# Altium footprint library H10R7.PcbLib: 22 footprints (part 1 of 2)
Each footprint in its own frame and in the unit in brackets; x right, y up, seen from the top. Pads: shape width x height; smd on the part's side, far side on the other; paste and mask are expansions set on the pad; w line width, h text height; cw(c..) or ccw(c..) is an arc to the next point about the centre after c.
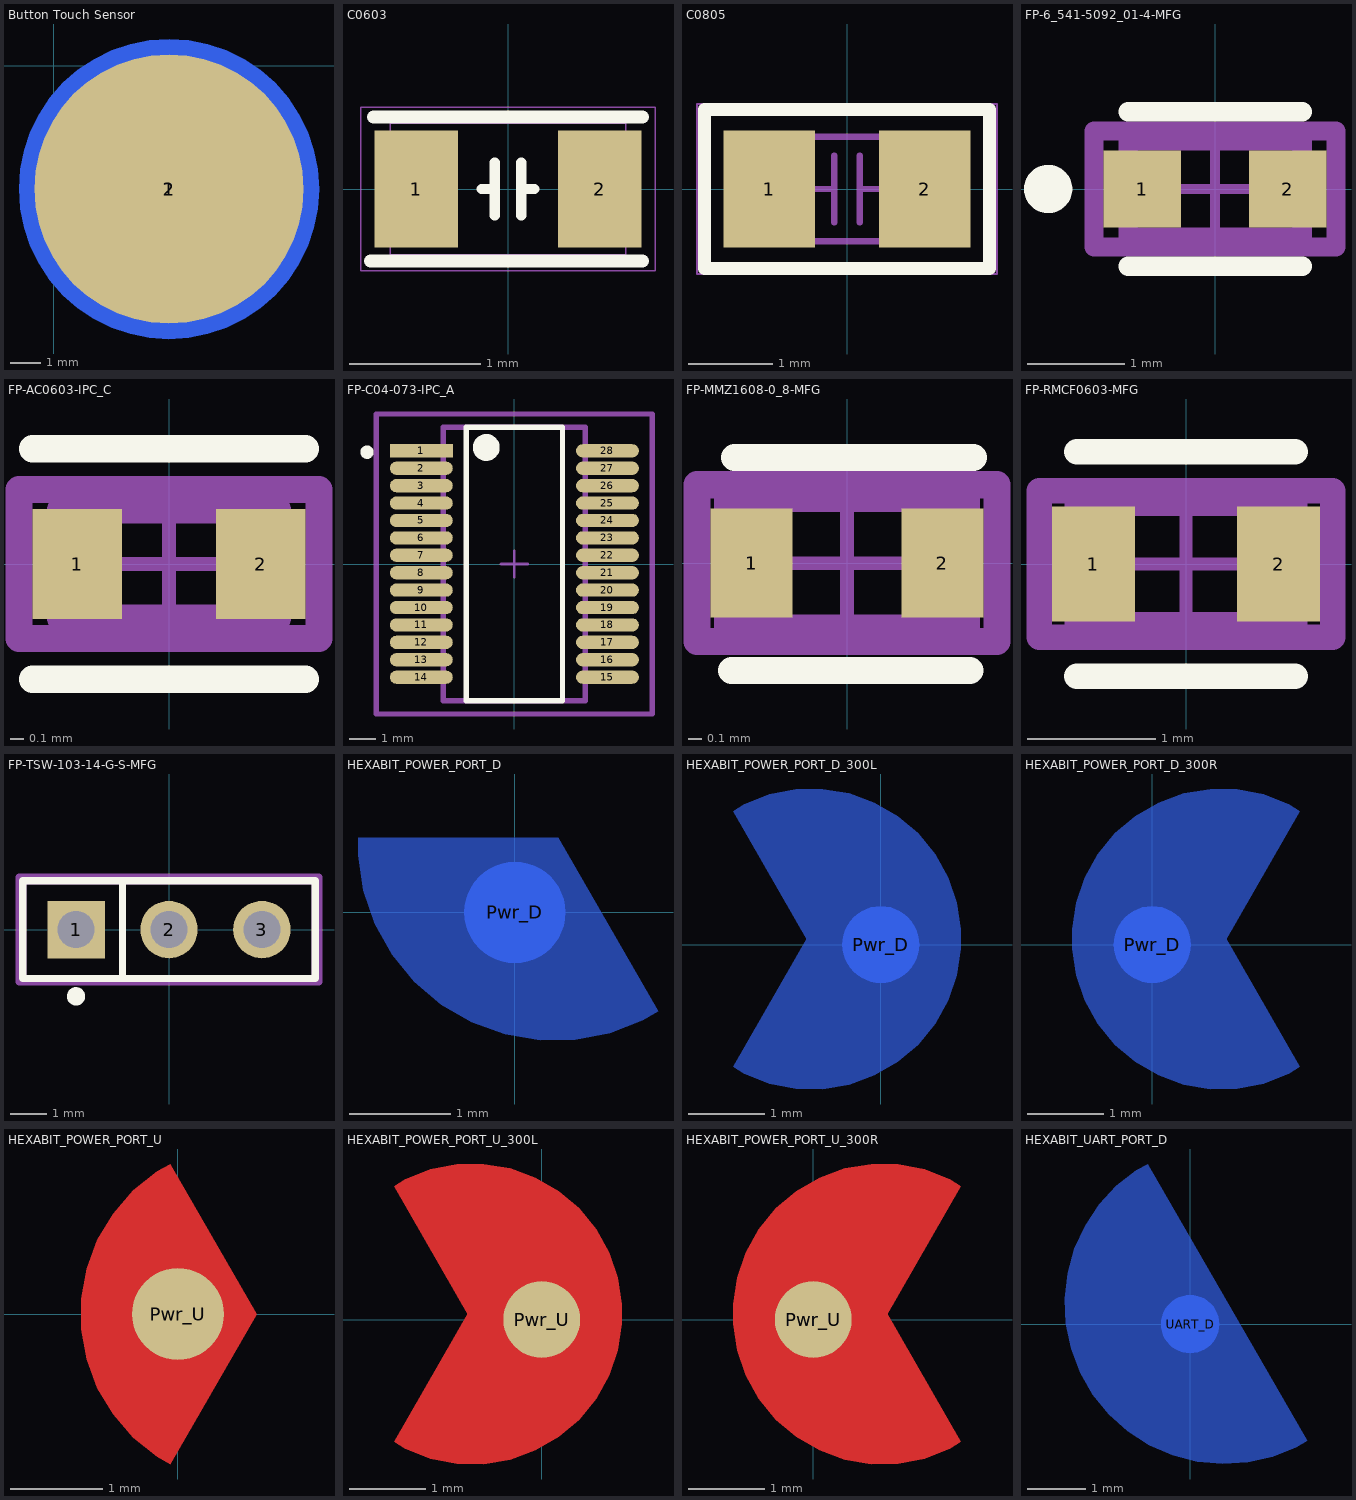
[diagram p0: the footprints below, top view; thin cyan lines are the x and y axes]

## Button Touch Sensor [mil]
pads (2):
  round 350 smd paste+0 mask+0: 1(150,-160)
  round 390 smd far side paste+0 mask+0: 2(150,-160)

## C0603 [mm]
pads (2):
  rect 0.64x0.89 smd mask+0.05: 1(-0.7,0) 2(0.7,0)
Top Overlay:
  lines w0.08: -0.2,0 -0.1,0 ; -0.1,-0.2 -0.1,0.2 ; 0.1,-0.2 0.1,0.2 ; 0.1,0 0.2,0
  lines w0.1: -1.05,-0.55 1.025,-0.55 ; -1.025,0.55 1.025,0.55
Mechanical 14:
  lines w0.01: -0.9,-0.5 -0.9,0.5 0.9,0.5 0.9,-0.5 -0.9,-0.5
Mechanical 16:
  lines w0.01: -1.125,-0.625 1.125,-0.625 1.125,0.625 -1.125,0.625 -1.125,-0.625
3D body "C0603.STEP": height 0.5, standoff 0, extent -0.8,-0.4 0.8,0.4
3D body: height 1.4, standoff 0, extent -0.899,-0.499 0.899,0.499

## C0805 [mil]
pads (2):
  rect 43x55 smd: 1(-36.5,0) 2(36.5,0)
Top Overlay:
  lines w6: -66.93,-37.4 66.93,-37.4 66.93,37.4 -11.81,37.4 -66.93,37.4 -66.93,-37.4
Top Courtyard:
  lines w1: -39.37,-24.61 39.37,-24.61 39.37,24.61 -39.37,24.61 -39.37,-24.61
Top 3D Body:
  lines w1: -70.5,-40 70.5,-40 70.5,40 -70.5,40 -70.5,-40
Mechanical 32:
  text "1" at -46.5,0 h25
  text "2" at 26.5,0 h25
Mechanical33:
  lines w6: -66.93,-37.4 66.93,-37.4 66.93,37.4 -11.81,37.4 -66.93,37.4 -66.93,-37.4
  text "C40" at 73.5,-7.17 h25
Top Assembly:
  lines w3: -33.46,0 -5.91,0 ; -5.91,-15.75 -5.91,0 ; -5.91,15.75 -5.91,0 ; 5.91,-15.75 5.91,0 ; 5.91,15.75 5.91,0 ; 33.46,0 5.91,0 ; -39.37,-24.61 39.37,-24.61 39.37,24.61 -39.37,24.61 -39.37,-24.61
3D body "0805CAP.step": height 30.79, standoff 0, extent -39.21,-24.48 39.53,24.73

## FP-6_541-5092_01-4-MFG [mm]
pads (2):
  rect 0.8x0.8 smd paste+0 mask+0: 1(-0.75,0) 2(0.75,0)
Top Overlay:
  circle w0.25: c-1.725,0 r0.125
  lines w0.2: -0.9,-0.8 0.9,-0.8 ; -0.9,0.8 0.9,0.8
Top Component Center:
  lines w0.1: -0.5,0 0.5,0 ; 0,-0.5 0,0.5
Top Courtyard:
  lines w0.2: -1.25,-0.6 -1.25,0.6 1.25,0.6 1.25,-0.6 -1.25,-0.6
Top 3D Body:
  lines w0.2: -0.9,-0.5 -0.9,0.5 0.9,0.5 0.9,-0.5 -0.9,-0.5
Top Assembly:
  lines w0.2: -1.25,-0.6 -1.25,0.6 1.25,0.6 1.25,-0.6 -1.25,-0.6
3D body "Diode_Vishay_VLMY1300-GS08_eec.STEP": height 0.25, standoff 0, extent -1.25,-0.6 1.25,0.6

## FP-AC0603-IPC_C [mm]
pads (2):
  rect 0.659x0.812 smd paste+0 mask+0: 1(-0.677,0) 2(0.677,0)
Top Overlay:
  lines w0.2: -1.006,-0.85 1.006,-0.85 ; -1.006,0.85 1.006,0.85
Top Component Center:
  lines w0.1: -0.5,0 0.5,0 ; 0,-0.5 0,0.5
Top Courtyard:
  lines w0.2: -1.106,-0.55 -1.106,0.55 1.106,0.55 1.106,-0.55 -1.106,-0.55
Top 3D Body:
  lines w0.2: -0.8,-0.4 -0.8,0.4 0.8,0.4 0.8,-0.4 -0.8,-0.4
Top Assembly:
  lines w0.2: -1.106,-0.55 -1.106,0.55 1.106,0.55 1.106,-0.55 -1.106,-0.55
  text ".Designator" at 0,0.188 h1
3D body "Res_Yageo_AC0603FR-07180RL_eec.STEP": height 0.25, standoff 0, extent -1.106,-0.55 1.106,0.55

## FP-C04-073-IPC_A [mm]
pads (28):
  rect 2.353x0.495 smd paste+0 mask+0: 1(-3.475,4.225)
  rrect100% 2.353x0.495 smd paste+0 mask+0: 2(-3.475,3.575) 3(-3.475,2.925) 4(-3.475,2.275) 5(-3.475,1.625) 6(-3.475,0.975) 7(-3.475,0.325) 8(-3.475,-0.325) 9(-3.475,-0.975) 10(-3.475,-1.625) 11(-3.475,-2.275) 12(-3.475,-2.925) 13(-3.475,-3.575) 14(-3.475,-4.225) 15(3.475,-4.225) 16(3.475,-3.575) 17(3.475,-2.925) 18(3.475,-2.275) 19(3.475,-1.625) 20(3.475,-0.975) 21(3.475,-0.325) 22(3.475,0.325) 23(3.475,0.975) 24(3.475,1.625) 25(3.475,2.275) 26(3.475,2.925) 27(3.475,3.575) 28(3.475,4.225)
Top Overlay:
  circle w0.25: c-5.502,4.175 r0.125
  circle w0.5: c-1.049,4.35 r0.25
  lines w0.2: -1.799,-5.1 -1.799,5.1 1.799,5.1 1.799,-5.1 -1.799,-5.1
Top Component Center:
  lines w0.1: -0.5,0 0.5,0 ; 0,-0.5 0,0.5
Top Courtyard:
  lines w0.2: -5.152,-5.6 -5.152,5.6 5.152,5.6 5.152,-5.6 -5.152,-5.6
Top 3D Body:
  lines w0.2: -2.65,-5.1 -2.65,5.1 2.65,5.1 2.65,-5.1 -2.65,-5.1
Top Assembly:
  lines w0.2: -5.152,-5.6 -5.152,5.6 5.152,5.6 5.152,-5.6 -5.152,-5.6
  text ".Designator" at 0,-0.001 h1
3D body "IC_Microchip_DSPIC33EV128GM002-I-SS_eec.STEP": height 0.25, standoff 0, extent -5.152,-5.6 5.152,5.6

## FP-MMZ1608-0_8-MFG [mm]
pads (2):
  rect 0.6x0.8 smd paste+0 mask+0: 1(-0.7,0) 2(0.7,0)
Top Overlay:
  lines w0.2: -0.848,-0.787 0.902,-0.787 ; -0.825,0.775 0.925,0.775
Top Component Center:
  lines w0.1: -0.5,0 0.5,0 ; 0,-0.5 0,0.5
Top Courtyard:
  lines w0.2: -1.1,-0.575 -1.1,0.575 1.1,0.575 1.1,-0.575 -1.1,-0.575
Top 3D Body:
  lines w0.2: -0.875,-0.475 -0.875,0.475 0.875,0.475 0.875,-0.475 -0.875,-0.475
Top Assembly:
  lines w0.2: -1.1,-0.575 -1.1,0.575 1.1,0.575 1.1,-0.575 -1.1,-0.575
3D body "FBead_TDK_MMZ1608A182BTA00_eec.STEP": height 0.95, standoff 0, extent -0.8,-0.4 0.8,0.4

## FP-RMCF0603-MFG [mm]
pads (2):
  rect 0.65x0.9 smd paste+0 mask+0: 1(-0.725,0) 2(0.725,0)
Top Overlay:
  lines w0.2: -0.854,-0.879 0.854,-0.879 ; -0.854,0.879 0.854,0.879
Top Component Center:
  lines w0.1: -0.5,0 0.5,0 ; 0,-0.5 0,0.5
Top Courtyard:
  lines w0.2: -1.15,-0.575 -1.15,0.575 1.15,0.575 1.15,-0.575 -1.15,-0.575
Top 3D Body:
  lines w0.2: -0.85,-0.475 -0.85,0.475 0.85,0.475 0.85,-0.475 -0.85,-0.475
Top Assembly:
  lines w0.2: -1.15,-0.575 -1.15,0.575 1.15,0.575 1.15,-0.575 -1.15,-0.575
  text ".Designator" at 0,0.188 h1
3D body "Res_Stackpole_Electronics_RMCF0603JT1M80_eec.STEP": height 0.55, standoff 0, extent -0.775,-0.4 0.775,0.4

## FP-TSW-103-14-G-S-MFG [mm]
pads (3):
  rect 1.57x1.57 hole 1.02 paste-2539.97 mask+0: 1(-2.54,0)
  round 1.57 hole 1.02 paste-2539.97 mask+0: 2(0,0) 3(2.54,0)
Top Overlay:
  circle w0.25: c-2.54,-1.825 r0.125
  lines w0.2: -1.27,-1.335 -1.27,1.335 ; -4,-1.335 4,-1.335 4,1.335 -4,1.335 -4,-1.335
Top Component Center:
  lines w0.1: -0.5,0 0.5,0 ; 0,-0.5 0,0.5
Top Courtyard:
  lines w0.2: -4.1,-1.435 4.1,-1.435 4.1,1.435 -4.1,1.435 -4.1,-1.435
Top 3D Body:
  lines w0.2: -4,-1.335 4,-1.335 4,1.335 -4,1.335 -4,-1.335
Top Assembly:
  lines w0.2: -4.1,-1.435 4.1,-1.435 4.1,1.435 -4.1,1.435 -4.1,-1.435
3D body "Conn_Samtec_TSW-103-14-G-S_eec.STEP": height 0.25, standoff 0, extent -4.1,-1.435 4.1,1.435

## HEXABIT_POWER_PORT_D [mm]
pads (1):
  rrect100% 1x1 smd far side paste+0: Pwr_D(0,0)
Bottom Layer:
  region: 1.418,-0.978 1.269,-1.069 0.942,-1.195 0.599,-1.262 0.249,-1.266 -0.096,-1.207 -0.425,-1.089 -0.728,-0.914 -0.995,-0.687 -1.217,-0.417 -1.388,-0.112 -1.501,0.219 -1.554,0.565 -1.549,0.74 0.429,0.74
Bottom Solder:
  region: 1.418,-0.978 1.269,-1.069 0.942,-1.195 0.599,-1.262 0.249,-1.266 -0.096,-1.207 -0.425,-1.089 -0.728,-0.914 -0.995,-0.687 -1.217,-0.417 -1.388,-0.112 -1.501,0.219 -1.554,0.565 -1.549,0.74 0.429,0.74

## HEXABIT_POWER_PORT_D_300L [mm]
pads (1):
  rrect100% 1x1 smd far side paste+0: Pwr_D(0,0)
Bottom Layer:
  region: 1.041,0.122 1.046,-0.053 0.993,-0.399 0.88,-0.729 0.709,-1.035 0.487,-1.305 0.22,-1.531 -0.083,-1.707 -0.412,-1.825 -0.757,-1.883 -1.107,-1.879 -1.45,-1.813 -1.777,-1.687 -1.926,-1.596 -0.937,0.122
  region: 1.041,0.022 1.046,0.197 0.993,0.543 0.88,0.874 0.709,1.179 0.487,1.449 0.22,1.676 -0.083,1.851 -0.412,1.969 -0.757,2.028 -1.107,2.024 -1.45,1.957 -1.777,1.831 -1.926,1.74 -0.937,0.022
Bottom Solder:
  region: 1.041,0.022 1.046,0.197 0.993,0.543 0.88,0.874 0.709,1.179 0.487,1.449 0.22,1.676 -0.083,1.851 -0.412,1.969 -0.757,2.028 -1.107,2.024 -1.45,1.957 -1.777,1.831 -1.926,1.74 -0.937,0.022
  region: 1.041,0.122 1.046,-0.053 0.993,-0.399 0.88,-0.729 0.709,-1.035 0.487,-1.305 0.22,-1.531 -0.083,-1.707 -0.412,-1.825 -0.757,-1.883 -1.107,-1.879 -1.45,-1.813 -1.777,-1.687 -1.926,-1.596 -0.937,0.122

## HEXABIT_POWER_PORT_D_300R [mm]
pads (1):
  rrect100% 1x1 smd far side paste+0: Pwr_D(0,0)
Bottom Layer:
  region: -1.041,0.022 -1.046,0.197 -0.993,0.543 -0.88,0.874 -0.709,1.179 -0.487,1.449 -0.22,1.676 0.083,1.851 0.412,1.969 0.757,2.028 1.107,2.024 1.45,1.957 1.777,1.831 1.926,1.74 0.937,0.022
  region: 1.926,-1.596 1.777,-1.687 1.45,-1.813 1.107,-1.879 0.757,-1.883 0.412,-1.825 0.083,-1.707 -0.22,-1.531 -0.487,-1.305 -0.709,-1.035 -0.88,-0.729 -0.993,-0.399 -1.046,-0.053 -1.041,0.122 0.937,0.122
Bottom Solder:
  region: 1.926,-1.596 1.777,-1.687 1.45,-1.813 1.107,-1.879 0.757,-1.883 0.412,-1.825 0.083,-1.707 -0.22,-1.531 -0.487,-1.305 -0.709,-1.035 -0.88,-0.729 -0.993,-0.399 -1.046,-0.053 -1.041,0.122 0.937,0.122
  region: -1.041,0.022 -1.046,0.197 -0.993,0.543 -0.88,0.874 -0.709,1.179 -0.487,1.449 -0.22,1.676 0.083,1.851 0.412,1.969 0.757,2.028 1.107,2.024 1.45,1.957 1.777,1.831 1.926,1.74 0.937,0.022

## HEXABIT_POWER_PORT_U [mm]
pads (1):
  rrect100% 1x1 smd paste+0: Pwr_U(0,0)
Top Layer:
  region: -0.081,-1.631 -0.228,-1.552 -0.487,-1.343 -0.706,-1.092 -0.876,-0.806 -0.993,-0.494 -1.052,-0.167 -1.052,0.167 -0.993,0.494 -0.876,0.806 -0.706,1.092 -0.487,1.343 -0.228,1.552 -0.081,1.631 0.858,0
Top Solder:
  region: -0.081,-1.631 -0.228,-1.552 -0.487,-1.343 -0.706,-1.092 -0.876,-0.806 -0.993,-0.494 -1.052,-0.167 -1.052,0.167 -0.993,0.494 -0.876,0.806 -0.706,1.092 -0.487,1.343 -0.228,1.552 -0.081,1.631 0.858,0

## HEXABIT_POWER_PORT_U_300L [mm]
pads (1):
  rrect100% 1x1 smd paste+0: Pwr_U(0,0)
Top Layer:
  region: 1.041,0.022 1.046,0.197 0.993,0.543 0.88,0.874 0.709,1.179 0.487,1.449 0.22,1.676 -0.083,1.851 -0.412,1.969 -0.757,2.028 -1.107,2.024 -1.45,1.957 -1.777,1.831 -1.926,1.74 -0.937,0.022
  region: 1.041,0.122 1.046,-0.053 0.993,-0.399 0.88,-0.729 0.709,-1.035 0.487,-1.305 0.22,-1.531 -0.083,-1.707 -0.412,-1.825 -0.757,-1.883 -1.107,-1.879 -1.45,-1.813 -1.777,-1.687 -1.926,-1.596 -0.937,0.122
Top Solder:
  region: 1.041,0.022 1.046,0.197 0.993,0.543 0.88,0.874 0.709,1.179 0.487,1.449 0.22,1.676 -0.083,1.851 -0.412,1.969 -0.757,2.028 -1.107,2.024 -1.45,1.957 -1.777,1.831 -1.926,1.74 -0.937,0.022
  region: 1.041,0.122 1.046,-0.053 0.993,-0.399 0.88,-0.729 0.709,-1.035 0.487,-1.305 0.22,-1.531 -0.083,-1.707 -0.412,-1.825 -0.757,-1.883 -1.107,-1.879 -1.45,-1.813 -1.777,-1.687 -1.926,-1.596 -0.937,0.122

## HEXABIT_POWER_PORT_U_300R [mm]
pads (1):
  rrect100% 1x1 smd paste+0: Pwr_U(0,0)
Top Layer:
  region: -1.041,0.022 -1.046,0.197 -0.993,0.543 -0.88,0.874 -0.709,1.179 -0.487,1.449 -0.22,1.676 0.083,1.851 0.412,1.969 0.757,2.028 1.107,2.024 1.45,1.957 1.777,1.831 1.926,1.74 0.937,0.022
  region: 1.926,-1.596 1.777,-1.687 1.45,-1.813 1.107,-1.879 0.757,-1.883 0.412,-1.825 0.083,-1.707 -0.22,-1.531 -0.487,-1.305 -0.709,-1.035 -0.88,-0.729 -0.993,-0.399 -1.046,-0.053 -1.041,0.122 0.937,0.122
Top Solder:
  region: -1.041,0.022 -1.046,0.197 -0.993,0.543 -0.88,0.874 -0.709,1.179 -0.487,1.449 -0.22,1.676 0.083,1.851 0.412,1.969 0.757,2.028 1.107,2.024 1.45,1.957 1.777,1.831 1.926,1.74 0.937,0.022
  region: 1.926,-1.596 1.777,-1.687 1.45,-1.813 1.107,-1.879 0.757,-1.883 0.412,-1.825 0.083,-1.707 -0.22,-1.531 -0.487,-1.305 -0.709,-1.035 -0.88,-0.729 -0.993,-0.399 -1.046,-0.053 -1.041,0.122 0.937,0.122

## HEXABIT_UART_PORT_D [mm]
pads (1):
  rrect100% 1x1 smd far side paste+0: UART_D(0,0)
Bottom Layer:
  region: 2.018,-2.008 1.83,-2.121 1.424,-2.285 0.997,-2.382 0.559,-2.41 0.123,-2.369 -0.301,-2.259 -0.702,-2.084 -1.071,-1.847 -1.398,-1.555 -1.674,-1.215 -1.893,-0.835 -2.049,-0.426 -2.138,0.003 -2.159,0.441 -2.11,0.876 -1.992,1.298 -1.81,1.696 -1.566,2.061 -1.268,2.382 -0.923,2.652 -0.731,2.758
Bottom Solder:
  region: 1.518,-1.138 1.369,-1.23 1.04,-1.351 0.693,-1.405 0.343,-1.388 0.003,-1.302 -0.314,-1.151 -0.593,-0.94 -0.826,-0.677 -1.001,-0.373 -1.113,-0.041 -1.157,0.307 -1.13,0.657 -1.035,0.994 -0.874,1.306 -0.655,1.58 -0.386,1.804 -0.232,1.888